# Altium schematic symbol library sunalsorises.SchLib: 10 symbols
Pins are listed as number, name and electrical type; pins without a type are passive.

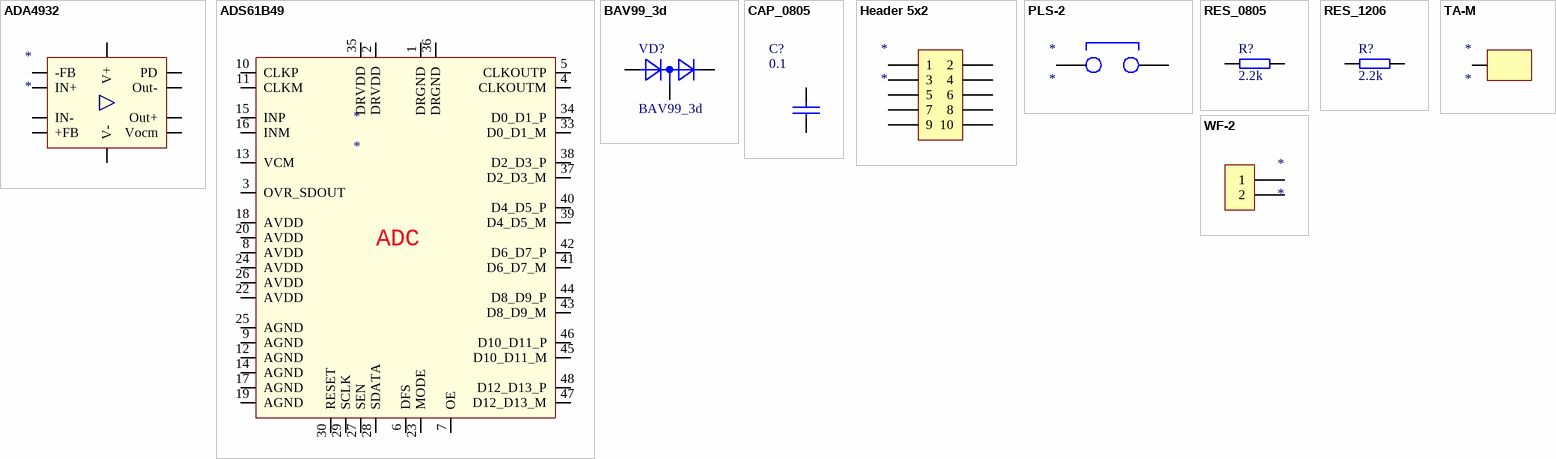
[diagram p0: symbols ADA4932 to WF-2]

## ADA4932
designator *
footprint ADA4932
pins: 1 -FB, 2 IN+, 3 IN-, 4 +FB, 5 V+, 9 Vocm, 10 Out+, 11 Out-, 12 PD, 13 V-

## ADS61B49
designator *
footprint ADS61B49
pins: 1 DRGND, 2 DRVDD, 3 OVR_SDOUT, 4 CLKOUTM, 5 CLKOUTP, 6 DFS, 7 OE, 8 AVDD, 9 AGND, 10 CLKP, 11 CLKM, 12 AGND, 13 VCM, 14 AGND, 15 INP, 16 INM, 17 AGND, 18 AVDD, 19 AGND, 20 AVDD, 22 AVDD, 23 MODE, 24 AVDD, 25 AGND, 26 AVDD, 27 SEN, 28 SDATA, 29 SCLK, 30 RESET, 33 D0_D1_M, 34 D0_D1_P, 35 DRVDD, 36 DRGND, 37 D2_D3_M, 38 D2_D3_P, 39 D4_D5_M, 40 D4_D5_P, 41 D6_D7_M, 42 D6_D7_P, 43 D8_D9_M, 44 D8_D9_P, 45 D10_D11_M, 46 D10_D11_P, 47 D12_D13_M, 48 D12_D13_P
text: ADC

## BAV99_3d
designator VD?
footprint SOT-23 - 3d
pins: 1, 2, 3

## CAP_0805
designator C?, comment 0.1
footprint CAP_0805
pins: 1, 2

## Header 5x2
designator *
footprint Header 5x2
pins: 1, 2, 3, 4, 5, 6, 7, 8, 9, 10

## PLS-2
designator *
footprint PLS-2
pins: 1, 2

## RES_0805
designator R?, comment 2.2k
footprint RES_0805
pins: 1, 2

## RES_1206
designator R?, comment 2.2k
footprint RES_1206
pins: 1, 2

## TA-M
designator *
footprint TA-M
pins: 1

## WF-2
designator *
footprint WF-2
pins: 1, 2